# Altium footprint library BM03B-GHS-TBT_PicoBlade.PcbLib: 1 footprints
Each footprint in its own frame and in the unit in brackets; x right, y up, seen from the top. Pads: shape width x height; smd on the part's side, far side on the other; paste and mask are expansions set on the pad; w line width, h text height; cw(c..) or ccw(c..) is an arc to the next point about the centre after c.
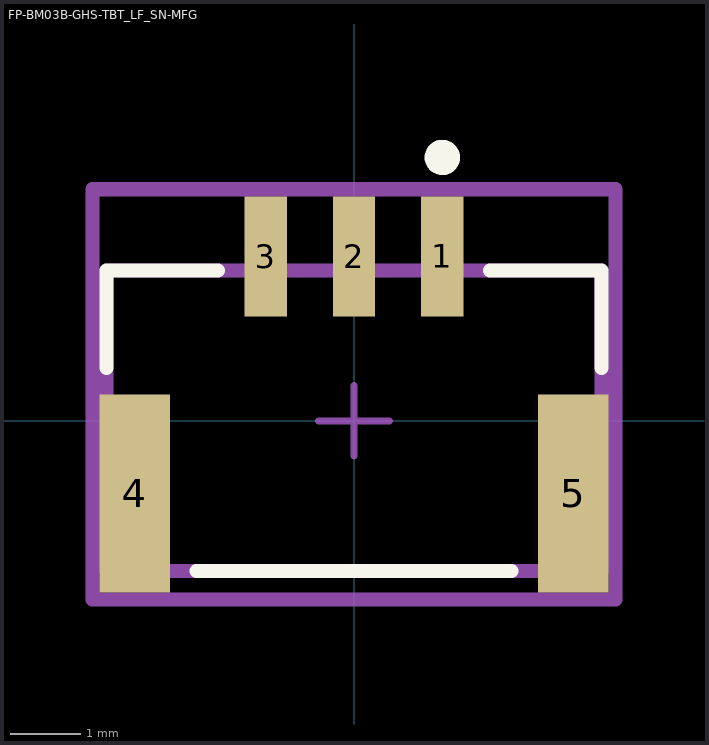
[diagram p0: the footprint, top view; thin cyan lines are the x and y axes]

## FP-BM03B-GHS-TBT_LF_SN-MFG [mm]
pads (5):
  rect 0.6x1.7 smd paste+0 mask+0: 1(1.25,2.325) 2(0,2.325) 3(-1.25,2.325)
  rect 1x2.8 smd paste+0 mask+0: 4(-3.1,-1.025) 5(3.1,-1.025)
Top Overlay:
  circle w0.25: c1.25,3.725 r0.125
  lines w0.2: -3.5,0.75 -3.5,2.125 -1.925,2.125 ; -2.225,-2.125 2.225,-2.125 ; 1.925,2.125 3.5,2.125 3.5,0.75
Top Assembly:
  lines w0.2: -3.7,-2.525 -3.7,3.275 3.7,3.275 3.7,-2.525 -3.7,-2.525
  text ".Designator" at 0,0.563 h1
Top 3D Body:
  lines w0.2: -3.5,-2.125 -3.5,2.125 3.5,2.125 3.5,-2.125 -3.5,-2.125
Top Courtyard:
  lines w0.2: -3.7,-2.525 -3.7,3.275 3.7,3.275 3.7,-2.525 -3.7,-2.525
Top Component Center:
  lines w0.1: -0.5,0 0.5,0 ; 0,-0.5 0,0.5
3D body "Conn_JST_BM03B-GHS-TBT_LF_SN_N_eec.STEP": height 0.25, standoff 0, extent -3.7,-2.525 3.7,3.275